# EAGLE library part TI-JTAG-HEADER (library FCI)
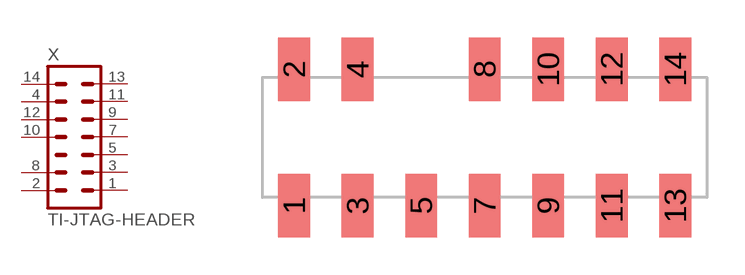
[diagram p0: symbol with the pads of SMT-PIN-HEADER-14POS; footprint SMT-PIN-HEADER-14POS]

Designator prefix X

## TI-JTAG-HEADER  [SMT-PIN-HEADER-14POS]
1  TMS  pas
2  !TRST  pas
3  TDI  pas
4  GND  pas
5  VTREF  pas
7  TDO  pas
8  GND  pas
9  TCK  pas
10  GND  pas
11  11  pas
12  GND  pas
13  EMU0  pas
14  EMU1  pas

## Footprint SMT-PIN-HEADER-14POS (pad centres in mm)
14-pos pin header, TI JTAG, surface mount From http://portal.fciconnect.com/Comergent/fci/drawing/95278.pdf
smd 1.27 x 2.54: 1 -7.62,-2.73; 2 -7.62,2.73; 3 -5.08,-2.73; 4 -5.08,2.73; 5 -2.54,-2.73; 7 0,-2.73; 8 0,2.73; 9 2.54,-2.73; 10 2.54,2.73; 11 5.08,-2.73; 12 5.08,2.73; 13 7.62,-2.73; 14 7.62,2.73